# Altium footprint library tof-connector-5.PcbLib: 1 footprints
Each footprint in its own frame and in the unit in brackets; x right, y up, seen from the top. Pads: shape width x height; smd on the part's side, far side on the other; paste and mask are expansions set on the pad; w line width, h text height; cw(c..) or ccw(c..) is an arc to the next point about the centre after c.
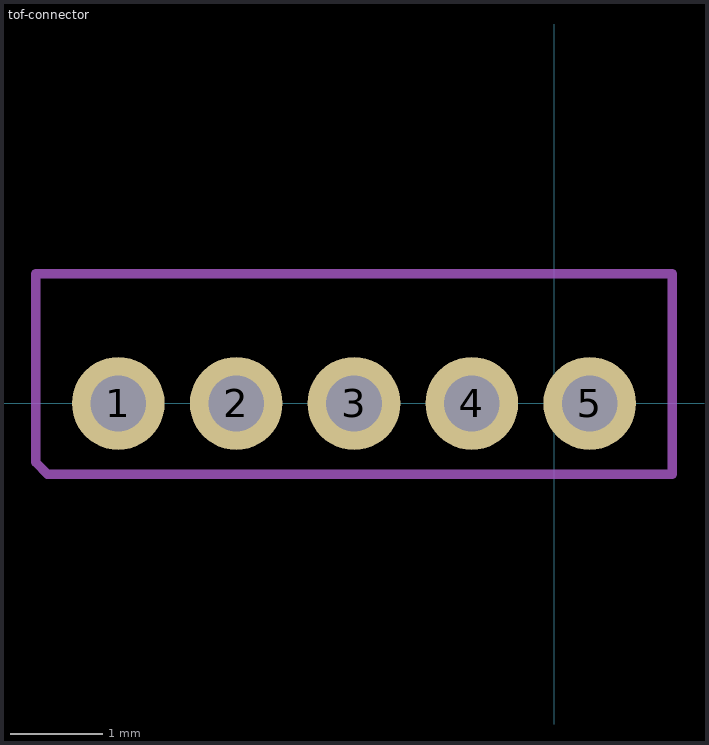
[diagram p0: the footprint, top view; thin cyan lines are the x and y axes]

## tof-connector [mm]
height 0.1
pads (5):
  round 1 hole 0.6: 1(-4.699,0) 2(-3.429,0) 3(-2.159,0) 4(-0.889,0) 5(0.381,0)
Mechanical 1:
  lines w0.1: -5.588,-0.635 -5.588,1.397 1.27,1.397 1.27,-0.762 -5.461,-0.762 -5.588,-0.635